# Altium footprint library DI_AVAGO_HSMx-C680.PcbLib: 1 footprints
Each footprint in its own frame and in the unit in brackets; x right, y up, seen from the top. Pads: shape width x height; smd on the part's side, far side on the other; paste and mask are expansions set on the pad; w line width, h text height; cw(c..) or ccw(c..) is an arc to the next point about the centre after c.
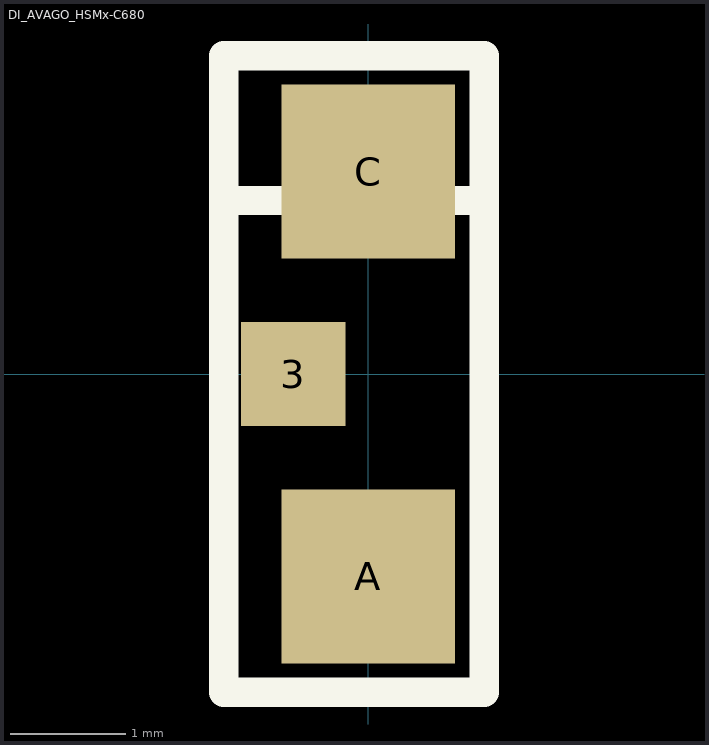
[diagram p0: the footprint, top view; thin cyan lines are the x and y axes]

## DI_AVAGO_HSMx-C680 [mm]
pads (3):
  rect 0.9x0.9 smd: 3(-0.65,0)
  rect 1.5x1.5 smd: A(0,-1.75) C(0,1.75)
Top Overlay:
  lines w0.254: -1.25,1.5 1,1.5 ; -1,2.75 1,2.75 1,-2.75 -1.25,-2.75 -1.25,2.75 -0.75,2.75
3D body: height 1, standoff -0.13, extent -1.1,-2.5 1.5,2.5